# Altium schematic symbol library Voltage Regulator.SchLib: 1 symbol
Pins are listed as number, name and electrical type; pins without a type are passive.

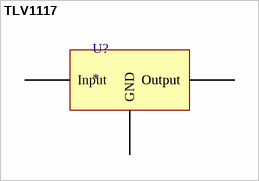
[diagram p0: symbol TLV1117]

## TLV1117
designator U?
ComponentLink1Description: TLV1117-50IDCY - Farnell; ComponentLink1URL: https://no.farnell.com/texas-instruments/tlv1117-50idcy/ic-ldo-reg-800ma-5v-sot223-4/dp/1755289?st=TLV1117
footprint SOT-223-2 (SOT-223/SC-73; 4 Leads; Body 6.7 x 7.3 mm, inc. leads (LxW max))
pins: 1 GND, 2 Output, 3 Input, 4 Output